# Altium schematic symbol library Ale.SchLib: 105 symbols
Pins are listed as number, name and electrical type; pins without a type are passive.

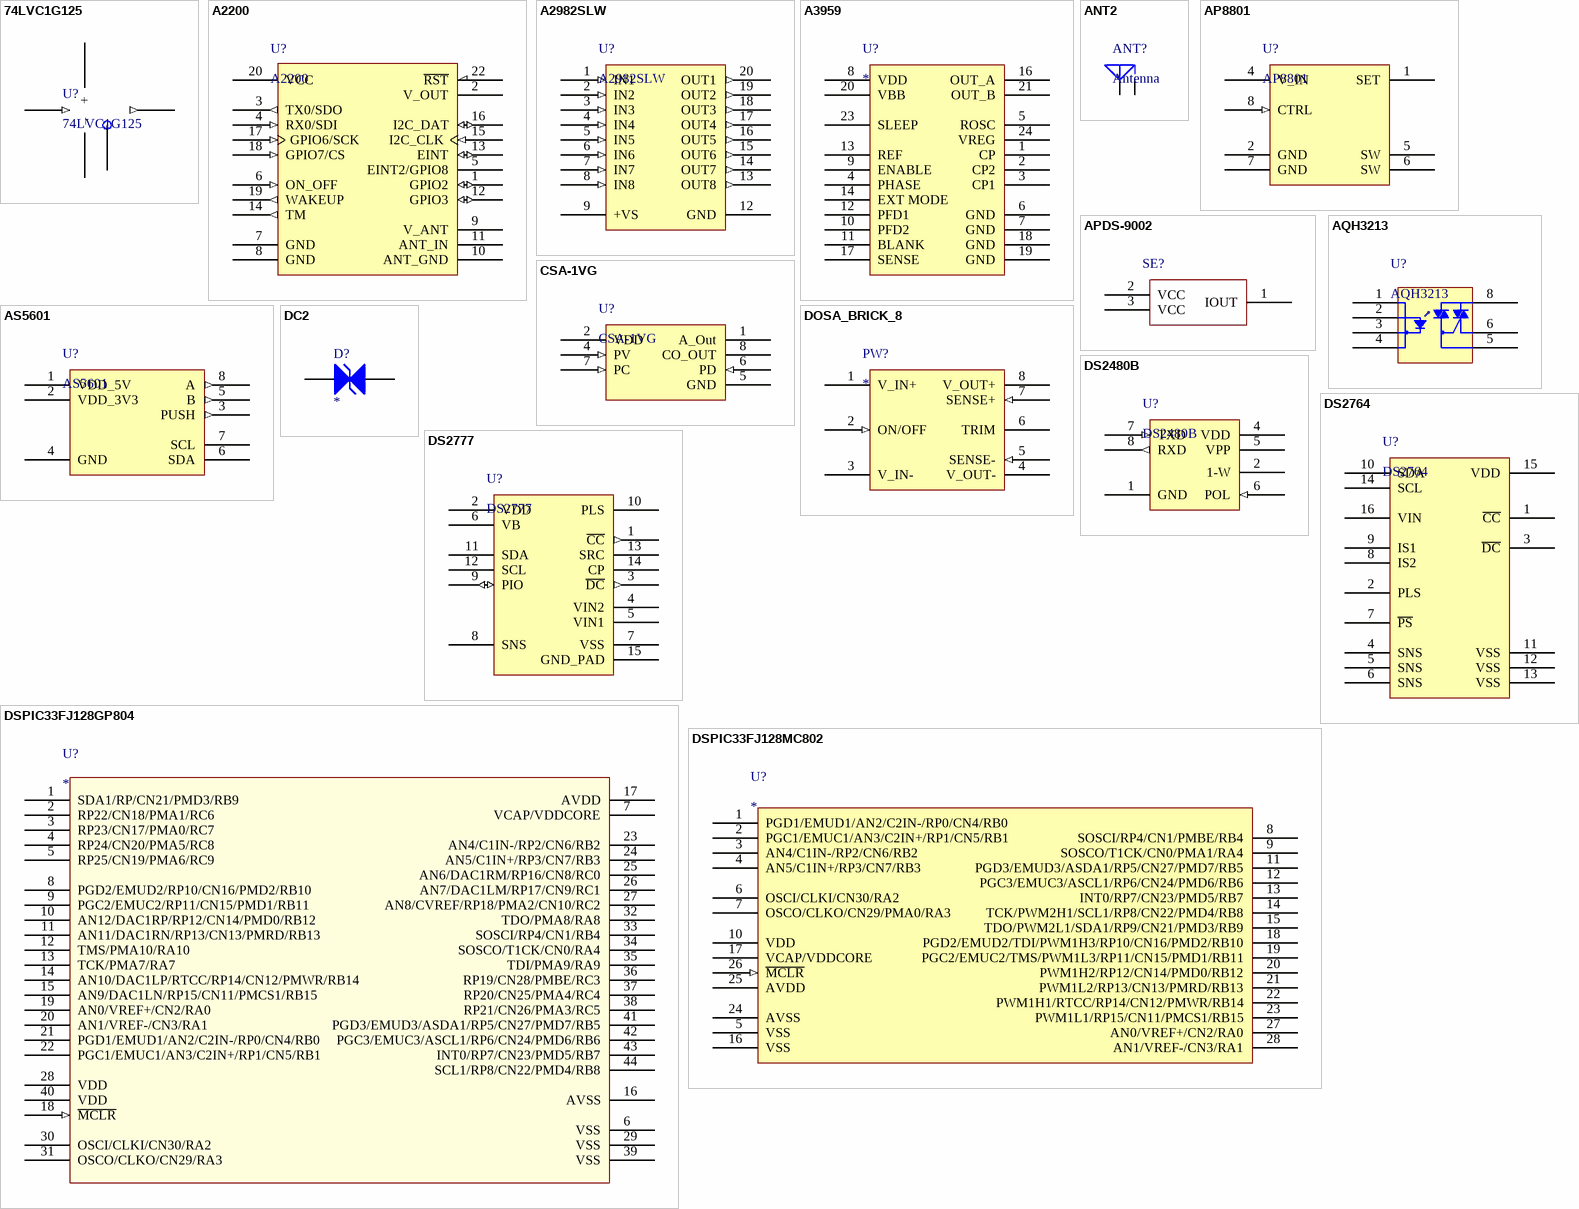
[diagram p0: symbols 74LVC1G125 to DSPIC33FJ128MC802]

## 74LVC1G125
designator U?
Bus buffer/line driver; 3-state; Distributeur: Farnell 1631685
footprint SOT353-5N (SOT353, 5-Leads, Body 2x1.3mm, Pitch 0.65mm, Lead Span 2.1mm, IPC Medium Density)
pins: 1 ~{OE}, 2 A (in), 3 – (power), 4 Y (out), 5 +

## A2200
designator U?
GPS Receiver Module; Supplier 1: Farnell; Supplier 2: Mouser; Supplier Part Number 1: 2281694; Supplier Part Number 2: 927-A2200-A
footprint GPS_A2200 (Maestro Wireless A2200-A GPS module)
pins: 1 GPIO2 (io), 2 V_OUT, 3 TX0/SDO (out), 4 RX0/SDI (in), 5 EINT2/GPIO8, 6 ON_OFF (in), 7 GND (power), 8 GND (power), 9 V_ANT, 10 ANT_GND, 11 ANT_IN, 12 GPIO3 (io), 13 EINT (io), 14 TM (out), 15 I2C_CLK (in), 16 I2C_DAT (io), 17 GPIO6/SCK (in), 18 GPIO7/CS (in), 19 WAKEUP (out), 20 VCC (power), 21 NC hidden, 22 ~{RST}

## A2982SLW
designator U?
8-Channel Source Driver
footprint SOIC127P1030-20N (SOIC, 20-Leads, Body 12.8x7.5mm, Pitch 1.27mm, IPC Medium Density)
pins: 1 IN1 (in), 2 IN2 (in), 3 IN3 (in), 4 IN4 (in), 5 IN5 (in), 6 IN6 (in), 7 IN7 (in), 8 IN8 (in), 9 +VS (power), 12 GND (power), 13 OUT8 (out), 14 OUT7 (out), 15 OUT6 (out), 16 OUT5 (out), 17 OUT4 (out), 18 OUT3 (out), 19 OUT2 (out), 20 OUT1 (out)

## A3959
designator U?
DMOS Full-Bridge PWM Motor Driver
footprint LB24_M (24-Pin Small Outline Integrated Circuit 1.27 mm Pitch, IPC Low Density)
pins: 1 CP, 2 CP2, 3 CP1, 4 PHASE, 5 ROSC, 6 GND (power), 7 GND (power), 8 VDD (power), 9 ENABLE, 10 PFD2, 11 BLANK, 12 PFD1, 13 REF, 14 EXT MODE, 15 NC hidden, 16 OUT_A, 17 SENSE (power), 18 GND (power), 19 GND (power), 20 VBB (power), 21 OUT_B, 22 NC hidden, 23 SLEEP, 24 VREG

## ANT2
designator ANT?, comment Antenna
Antenna with ground connector
footprint CONN_SMA (SMA straight PCB socket)
pins: 1 FEED, 2 GND

## AP8801
designator U?
500mA LED Step-down Converter
footprint SOIC127P600-8AN (SOIC, 8-Leads, Body 4.9x3.9mm, Pitch 1.27mm, IPC Medium Density)
pins: 1 SET, 2 GND (power), 4 V_IN (power), 5 SW, 6 SW, 7 GND (power), 8 CTRL (in)

## APDS-9002
designator SE?  (value not drawn)
Miniature Surface-Mount Ambient Light Photo Sensor
footprint APDS-9002 (Miniature Surface-Mount Ambient Light Photo Sensor)
pins: 1 IOUT, 2 VCC (power), 3 VCC (power), 4 NC hidden

## AQH3213
designator U?
Solid state AC relay
footprint DIP-8 (DIP; 8 Leads; Row Spacing 7.62 mm; Pitch 2.54 mm)
pins: 1 -, 2 +, 3 -, 4 -, 5 GATE, 6 OUT2, 8 OUT1

## AS5601
designator U?
12-bit On-Axis Magnetic Rotary Position Sensor
footprint SOIC127P600-8AN (SOIC, 8-Leads, Body 4.9x3.9mm, Pitch 1.27mm, IPC Medium Density)
pins: 1 VDD_5V (power), 2 VDD_3V3 (power), 3 PUSH (out), 4 GND (power), 5 B (out), 6 SDA (oc), 7 SCL (oc), 8 A (out)

## CSA-1VG
designator U?
Linear 1-Axis Hall IC
footprint SOIC127P600-8AN (SOIC, 8-Leads, Body 4.9x3.9mm, Pitch 1.27mm, IPC Medium Density)
pins: 1 A_Out, 2 VDD (power), 3 NC hidden, 4 PV (in), 5 GND (power), 6 PD (in), 7 PC (in), 8 CO_OUT

## DC2
designator D?
Bidirectional clamping diode
footprint SMA (DO-214AC Diode)
pins: 1 A1, 2 A2

## DOSA_BRICK_8
designator PW?
Isolated Converter 1/8 brick (DOSA standard)
pins: 1 V_IN+ (power), 2 ON/OFF (in), 3 V_IN- (power), 4 V_OUT- (power), 5 SENSE- (in), 6 TRIM, 7 SENSE+ (in), 8 V_OUT+

## DS2480B
designator U?
Serial 1-Wire Line Driver with Load Sensor
footprint SOIC127P600-8AN (SOIC, 8-Leads, Body 4.9x3.9mm, Pitch 1.27mm, IPC Medium Density)
pins: 1 GND (power), 2 1-W, 3 hidden, 4 VDD (power), 5 VPP (power), 6 POL (in), 7 TXD (in), 8 RXD (out)

## DS2764
designator U?
High-Precision Li+ Battery Monitor with 2-Wire Interface
footprint TSSOP16 (Shrink Small Outline; 16 Leads; Body Width 4.4 mm; Pitch 0.65 mm)
pins: 1 ~{CC}, 2 PLS, 3 ~{DC}, 4 SNS, 5 SNS, 6 SNS, 7 ~{PS}, 8 IS2, 9 IS1, 10 SDA, 11 VSS, 12 VSS, 13 VSS, 14 SCL, 15 VDD (power), 16 VIN

## DS2777
designator U?
2-Cell, Stand-Alone, Li+ Fuel-Gauge IC with Protector and Optional SHA-1 Authentication
footprint DFN40P500X300X80-14N (DFN, 14-Leads, Body 3.1x5.1mm (max), Pitch 0.40mm, IPC Medium Density)
pins: 1 ~{CC} (out), 2 VDD (power), 3 ~{DC} (out), 4 VIN2, 5 VIN1, 6 VB, 7 VSS (power), 8 SNS, 9 PIO (io), 10 PLS, 11 SDA, 12 SCL, 13 SRC, 14 CP, 15 GND_PAD (power)

## DSPIC33FJ128GP804
designator U?
High-Performance, 16-bit Digital Signal Controller
pins: 1 SDA1/RP/CN21/PMD3/RB9, 2 RP22/CN18/PMA1/RC6, 3 RP23/CN17/PMA0/RC7, 4 RP24/CN20/PMA5/RC8, 5 RP25/CN19/PMA6/RC9, 6 VSS (power), 7 VCAP/VDDCORE, 8 PGD2/EMUD2/RP10/CN16/PMD2/RB10, 9 PGC2/EMUC2/RP11/CN15/PMD1/RB11, 10 AN12/DAC1RP/RP12/CN14/PMD0/RB12, 11 AN11/DAC1RN/RP13/CN13/PMRD/RB13, 12 TMS/PMA10/RA10, 13 TCK/PMA7/RA7, 14 AN10/DAC1LP/RTCC/RP14/CN12/PMWR/RB14, 15 AN9/DAC1LN/RP15/CN11/PMCS1/RB15, 16 AVSS (power), 17 AVDD (power), 18 ~{MCLR} (in), 19 AN0/VREF+/CN2/RA0, 20 AN1/VREF-/CN3/RA1, 21 PGD1/EMUD1/AN2/C2IN-/RP0/CN4/RB0, 22 PGC1/EMUC1/AN3/C2IN+/RP1/CN5/RB1, 23 AN4/C1IN-/RP2/CN6/RB2, 24 AN5/C1IN+/RP3/CN7/RB3, 25 AN6/DAC1RM/RP16/CN8/RC0, 26 AN7/DAC1LM/RP17/CN9/RC1, 27 AN8/CVREF/RP18/PMA2/CN10/RC2, 28 VDD (power), 29 VSS (power), 30 OSCI/CLKI/CN30/RA2, 31 OSCO/CLKO/CN29/RA3, 32 TDO/PMA8/RA8, 33 SOSCI/RP4/CN1/RB4, 34 SOSCO/T1CK/CN0/RA4, 35 TDI/PMA9/RA9, 36 RP19/CN28/PMBE/RC3, 37 RP20/CN25/PMA4/RC4, 38 RP21/CN26/PMA3/RC5, 39 VSS (power), 40 VDD (power), 41 PGD3/EMUD3/ASDA1/RP5/CN27/PMD7/RB5, 42 PGC3/EMUC3/ASCL1/RP6/CN24/PMD6/RB6, 43 INT0/RP7/CN23/PMD5/RB7, 44 SCL1/RP8/CN22/PMD4/RB8

## DSPIC33FJ128MC802
designator U?
High Performance, 16-bit Digital Signal Controller
footprint QFN-P28-NOPAD (Quad Flat No Lead, Plastic, Punch; 28 Terminals; Body 6 x 6 mm; Pitch 0.65 mm; no central pad)
pins: 1 PGD1/EMUD1/AN2/C2IN-/RP0/CN4/RB0, 2 PGC1/EMUC1/AN3/C2IN+/RP1/CN5/RB1, 3 AN4/C1IN-/RP2/CN6/RB2, 4 AN5/C1IN+/RP3/CN7/RB3, 5 VSS (power), 6 OSCI/CLKI/CN30/RA2, 7 OSCO/CLKO/CN29/PMA0/RA3, 8 SOSCI/RP4/CN1/PMBE/RB4, 9 SOSCO/T1CK/CN0/PMA1/RA4, 10 VDD (power), 11 PGD3/EMUD3/ASDA1/RP5/CN27/PMD7/RB5, 12 PGC3/EMUC3/ASCL1/RP6/CN24/PMD6/RB6, 13 INT0/RP7/CN23/PMD5/RB7, 14 TCK/PWM2H1/SCL1/RP8/CN22/PMD4/RB8, 15 TDO/PWM2L1/SDA1/RP9/CN21/PMD3/RB9, 16 VSS (power), 17 VCAP/VDDCORE (power), 18 PGD2/EMUD2/TDI/PWM1H3/RP10/CN16/PMD2/RB10, 19 PGC2/EMUC2/TMS/PWM1L3/RP11/CN15/PMD1/RB11, 20 PWM1H2/RP12/CN14/PMD0/RB12, 21 PWM1L2/RP13/CN13/PMRD/RB13, 22 PWM1H1/RTCC/RP14/CN12/PMWR/RB14, 23 PWM1L1/RP15/CN11/PMCS1/RB15, 24 AVSS (power), 25 AVDD (power), 26 ~{MCLR} (in), 27 AN0/VREF+/CN2/RA0, 28 AN1/VREF-/CN3/RA1

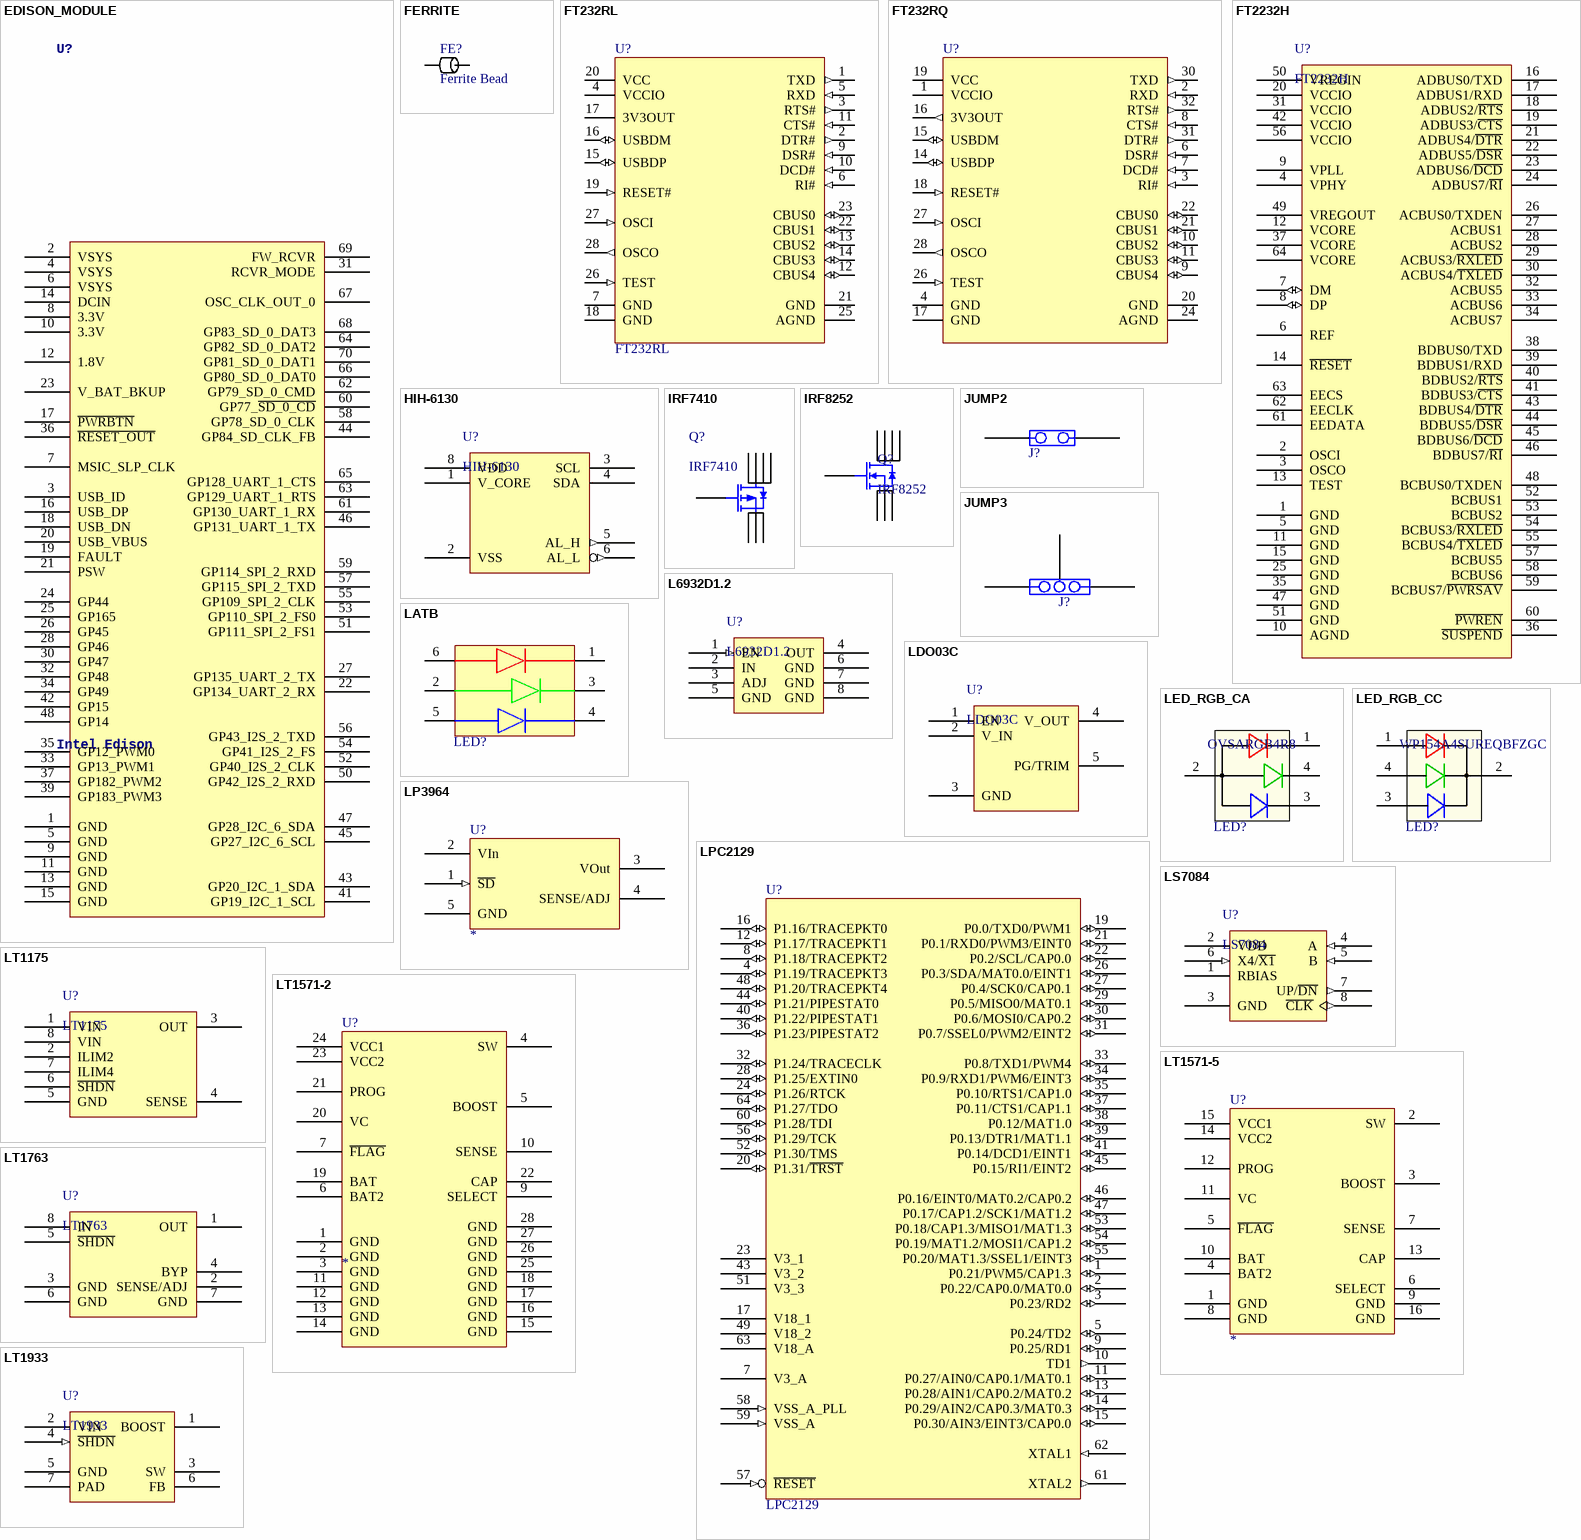
[diagram p1: symbols EDISON_MODULE to LT1933]

## EDISON_MODULE
designator U?, comment Intel Edison
Intel Edison compute module
footprint EDISON_CONNECTOR (Intel Edison compute module connector and holes)
pins: 1 GND, 2 VSYS, 3 USB_ID, 4 VSYS, 5 GND, 6 VSYS, 7 MSIC_SLP_CLK, 8 3.3V, 9 GND, 10 3.3V, 11 GND, 12 1.8V, 13 GND, 14 DCIN, 15 GND, 16 USB_DP, 17 ~{PWRBTN}, 18 USB_DN, 19 FAULT, 20 USB_VBUS, 21 PSW, 22 GP134_UART_2_RX, 23 V_BAT_BKUP, 24 GP44, 25 GP165, 26 GP45, 27 GP135_UART_2_TX, 28 GP46, 30 GP47, 31 RCVR_MODE, 32 GP48, 33 GP13_PWM1, 34 GP49, 35 GP12_PWM0, 36 ~{RESET_OUT}, 37 GP182_PWM2, 39 GP183_PWM3, 41 GP19_I2C_1_SCL, 42 GP15, 43 GP20_I2C_1_SDA, 44 GP84_SD_CLK_FB, 45 GP27_I2C_6_SCL, 46 GP131_UART_1_TX, 47 GP28_I2C_6_SDA, 48 GP14, 50 GP42_I2S_2_RXD, 51 GP111_SPI_2_FS1, 52 GP40_I2S_2_CLK, 53 GP110_SPI_2_FS0, 54 GP41_I2S_2_FS, 55 GP109_SPI_2_CLK, 56 GP43_I2S_2_TXD, 57 GP115_SPI_2_TXD, 58 GP78_SD_0_CLK, 59 GP114_SPI_2_RXD, 60 GP77_~{SD_0_CD}, 61 GP130_UART_1_RX, 62 GP79_SD_0_CMD, 63 GP129_UART_1_RTS, 64 GP82_SD_0_DAT2, 65 GP128_UART_1_CTS, 66 GP80_SD_0_DAT0, 67 OSC_CLK_OUT_0, 68 GP83_SD_0_DAT3, 69 FW_RCVR, 70 GP81_SD_0_DAT1

## FERRITE
designator FE?, comment Ferrite Bead
footprint INDC1608N (Chip Inductor, Body 1.6x0.8mm, IPC Medium Density)
footprint WIRE (Connection wire)
pins: 1 A, 2 A

## FT232RL
designator U?
USB UART Asynchronous Serial Data Transfer Chip, SSOP28, Pb-Free; Published: 6-Oct-2005; LatestRevisionDate: 13-Apr-2006; LatestRevisionNote: IPC-7351 Footprint Added.; DatasheetVersion: ver 1.7, Feb-2005; PackageVersion: Feb-2005; PackageReference: QFN32; Publisher: Altium Limited; PackageDescription: 32-Pin Quad Flat No-Lead 0.5 mm Pitch; ComponentLink1Description: Manufacturer Link; ComponentLink1URL: http://www.ftdichip.com/Products/FT232BM.htm; ComponentLink2Description: Datasheet; ComponentLink2URL: http://www.ftdichip.com/Documents/DataSheets/ds232bq17.pdf
footprint SSOP28-5.30 (Shrink Small Outline; 28 Leads; Body Width 5.3 mm; Pitch 0.65 mm)
pins: 1 TXD (out), 2 DTR# (out), 3 RTS# (out), 4 VCCIO (power), 5 RXD (in), 6 RI# (in), 7 GND (power), 9 DSR# (in), 10 DCD# (in), 11 CTS# (in), 12 CBUS4 (io), 13 CBUS2 (io), 14 CBUS3 (io), 15 USBDP (io), 16 USBDM (io), 17 3V3OUT (power), 18 GND (power), 19 RESET# (in), 20 VCC (power), 21 GND (power), 22 CBUS1 (io), 23 CBUS0 (io), 25 AGND (power), 26 TEST (in), 27 OSCI (in), 28 OSCO (out)

## FT232RQ
designator U?
USB UART Asynchronous Serial Data Transfer Chip, QFN32, Pb-Free; Published: 6-Oct-2005; LatestRevisionDate: 13-Apr-2006; LatestRevisionNote: IPC-7351 Footprint Added.; DatasheetVersion: ver 1.7, Feb-2005; PackageVersion: Feb-2005; PackageReference: QFN32; Publisher: Altium Limited; PackageDescription: 32-Pin Quad Flat No-Lead 0.5 mm Pitch; ComponentLink1Description: Manufacturer Link; ComponentLink1URL: http://www.ftdichip.com/Products/FT232BM.htm; ComponentLink2Description: Datasheet; ComponentLink2URL: http://www.ftdichip.com/Documents/DataSheets/ds232bq17.pdf
footprint QFN5X5-32-NOPAD (Quad Flat No Lead; 32 Terminals; Body 5 x 5 mm; Pitch 0.5 mm; no central pad)
pins: 1 VCCIO (power), 2 RXD (in), 3 RI# (in), 4 GND (power), 6 DSR# (in), 7 DCD# (in), 8 CTS# (in), 9 CBUS4 (io), 10 CBUS2 (io), 11 CBUS3 (io), 14 USBDP (io), 15 USBDM (io), 16 3V3OUT (out), 17 GND (power), 18 RESET# (in), 19 VCC (power), 20 GND (power), 21 CBUS1 (io), 22 CBUS0 (io), 24 AGND (power), 26 TEST (in), 27 OSCI (in), 28 OSCO (out), 30 TXD (out), 31 DTR# (out), 32 RTS# (out)

## FT2232H
designator U?
Dual high-speed USB to multipurpose UART/FIFO IC
footprint QFN50P900X900-64BVN (QFN, 64-Leads, Body 9x9mm, Pitch 0.5mm, IPC Medium Density)
footprint TSQFP50P1200X1200-64N (Thin QFP, 64-Leads, Body 10x10mm, Pitch 0.5mm, IPC Medium Density)
pins: 1 GND (power), 2 OSCI, 3 OSCO, 4 VPHY, 5 GND (power), 6 REF, 7 DM (io), 8 DP (io), 9 VPLL, 10 AGND, 11 GND (power), 12 VCORE (power), 13 TEST, 14 ~{RESET}, 15 GND (power), 16 ADBUS0/TXD, 17 ADBUS1/RXD, 18 ADBUS2/~{RTS}, 19 ADBUS3/~{CTS}, 20 VCCIO (power), 21 ADBUS4/~{DTR}, 22 ADBUS5/~{DSR}, 23 ADBUS6/~{DCD}, 24 ADBUS7/~{RI}, 25 GND (power), 26 ACBUS0/TXDEN, 27 ACBUS1, 28 ACBUS2, 29 ACBUS3/~{RXLED}, 30 ACBUS4/~{TXLED}, 31 VCCIO (power), 32 ACBUS5, 33 ACBUS6, 34 ACBUS7, 35 GND (power), 36 ~{SUSPEND}, 37 VCORE (power), 38 BDBUS0/TXD, 39 BDBUS1/RXD, 40 BDBUS2/~{RTS}, 41 BDBUS3/~{CTS}, 42 VCCIO (power), 43 BDBUS4/~{DTR}, 44 BDBUS5/~{DSR}, 45 BDBUS6/~{DCD}, 46 BDBUS7/~{RI}, 47 GND (power), 48 BCBUS0/TXDEN, 49 VREGOUT, 50 VREGIN, 51 GND (power), 52 BCBUS1, 53 BCBUS2, 54 BCBUS3/~{RXLED}, 55 BCBUS4/~{TXLED}, 56 VCCIO (power), 57 BCBUS5, 58 BCBUS6, 59 BCBUS7/~{PWRSAV}, 60 ~{PWREN}, 61 EEDATA, 62 EECLK, 63 EECS, 64 VCORE (power)

## HIH-6130
designator U?
HumidIcon Digital Humidity/Temperature Sensor
footprint PVQFN14_RGY (Footprint not found)
pins: 1 V_CORE, 2 VSS (power), 3 SCL (oc), 4 SDA (oc), 5 AL_H (out), 6 AL_L (out), 8 VDD (power)

## IRF7410
designator Q?
P-Channel MOSFET
footprint SOIC127P600-8AN (SOIC, 8-Leads, Body 4.9x3.9mm, Pitch 1.27mm, IPC Medium Density)
pins: 1 S, 2 S, 3 S, 4 G, 5 D, 6 D, 7 D, 8 D

## IRF8252
designator Q?
N-Channel MOSFET
footprint SOIC127P600-8AN (SOIC, 8-Leads, Body 4.9x3.9mm, Pitch 1.27mm, IPC Medium Density)
pins: 1 S, 2 S, 3 S, 4 G, 5 D, 6 D, 7 D, 8 D

## JUMP2
designator J?  (value not drawn)
Jumper, 2 leads
footprint JUMP2 (Jumper, 2.54 mm pitch)
pins: 1, 2
1 alternate drawing of the same symbol

## JUMP3
designator J?  (value not drawn)
Jumper, 3 leads
footprint HDR1X3 (Connector; Header; 3 Position)
pins: 1, 2, 3
1 alternate drawing of the same symbol

## L6932D1.2
designator U?
High Performance 2 A ULDO Linear Regulator
footprint SOIC127P600-8AN (SOIC, 8-Leads, Body 4.9x3.9mm, Pitch 1.27mm, IPC Medium Density)
pins: 1 EN (in), 2 IN (power), 3 ADJ, 4 OUT, 5 GND (power), 6 GND (power), 7 GND (power), 8 GND (power)

## LATB
designator LED?, comment LATB G66B  (value not drawn)
Manufacturer: Osram; Published: 19 Décembre 2005; Revision: 1; Publisher: Pierre-André
footprint LCC6 (RGB LED)
pins: 1 RK, 2 GA, 3 GK, 4 BK, 5 BA, 6 RA

## LDO03C
designator U?
LDO03C series DC/DC converter
footprint EMERSON_LDO03C_H (Emerson LDO03C DC/DC converter, horizontal mount)
pins: 1 EN, 2 V_IN (power), 3 GND (power), 4 V_OUT (power), 5 PG/TRIM

## LED_RGB_CA
designator LED?, comment OVSARGB4R8
Common anode RGB LED; Revision: 1
footprint PLCC4 (PLCC4 LED)
pins: 1 RK, 2 A, 3 BK, 4 GK

## LED_RGB_CC
designator LED?, comment WP154A4SUREQBFZGC
Common cathode RGB LED; Revision: 1
pins: 1 RA, 2 K, 3 BA, 4 GA

## LP3964
designator U?
800mA Fast Ultra Low Dropout Linear Regulator
footprint SOT223-5N (SOT223, 5-Leads, Body 6.5x3.5mm, Pitch 1.5mm, Lead Span 7mm, IPC Medium Density)
pins: 1 ~{SD} (in), 2 VIn (power), 3 VOut (power), 4 SENSE/ADJ, 5 GND

## LPC2129
designator U?
Philips LPC2129 ARM processor; OriginalAuthor: PAM
footprint TSQFP50P1200X1200-64N (Thin QFP, 64-Leads, Body 10x10mm, Pitch 0.5mm, IPC Medium Density)
pins: 1 P0.21/PWM5/CAP1.3 (io), 2 P0.22/CAP0.0/MAT0.0 (io), 3 P0.23/RD2 (io), 4 P1.19/TRACEPKT3 (io), 5 P0.24/TD2 (io), 6 VSS_1 (power) hidden to GND, 7 V3_A (power), 8 P1.18/TRACEPKT2 (io), 9 P0.25/RD1 (io), 10 TD1 (out), 11 P0.27/AIN0/CAP0.1/MAT0.1 (io), 12 P1.17/TRACEPKT1 (io), 13 P0.28/AIN1/CAP0.2/MAT0.2 (io), 14 P0.29/AIN2/CAP0.3/MAT0.3 (io), 15 P0.30/AIN3/EINT3/CAP0.0 (io), 16 P1.16/TRACEPKT0 (io), 17 V18_1 (power), 18 VSS_2 (power) hidden to GND, 19 P0.0/TXD0/PWM1 (io), 20 P1.31/~{TRST} (io), 21 P0.1/RXD0/PWM3/EINT0 (io), 22 P0.2/SCL/CAP0.0 (io), 23 V3_1 (power), 24 P1.26/RTCK (io), 25 VSS_3 (power) hidden to GND, 26 P0.3/SDA/MAT0.0/EINT1 (io), 27 P0.4/SCK0/CAP0.1 (io), 28 P1.25/EXTIN0 (io), 29 P0.5/MISO0/MAT0.1 (io), 30 P0.6/MOSI0/CAP0.2 (io), 31 P0.7/SSEL0/PWM2/EINT2 (io), 32 P1.24/TRACECLK (io), 33 P0.8/TXD1/PWM4 (io), 34 P0.9/RXD1/PWM6/EINT3 (io), 35 P0.10/RTS1/CAP1.0 (io), 36 P1.23/PIPESTAT2 (io), 37 P0.11/CTS1/CAP1.1 (io), 38 P0.12/MAT1.0 (io), 39 P0.13/DTR1/MAT1.1 (io), 40 P1.22/PIPESTAT1 (io), 41 P0.14/DCD1/EINT1 (io), 42 VSS_4 (power) hidden to GND, 43 V3_2 (power), 44 P1.21/PIPESTAT0 (io), 45 P0.15/RI1/EINT2 (io), 46 P0.16/EINT0/MAT0.2/CAP0.2 (io), 47 P0.17/CAP1.2/SCK1/MAT1.2 (io), 48 P1.20/TRACEPKT4 (io), 49 V18_2 (power), 50 VSS_5 (power) hidden to GND, 51 V3_3 (power), 52 P1.30/TMS (io), 53 P0.18/CAP1.3/MISO1/MAT1.3 (io), 54 P0.19/MAT1.2/MOSI1/CAP1.2 (io), 55 P0.20/MAT1.3/SSEL1/EINT3 (io), 56 P1.29/TCK (io), 57 ~{RESET} (in), 58 VSS_A_PLL (in), 59 VSS_A (in), 60 P1.28/TDI (io), 61 XTAL2 (out), 62 XTAL1 (in), 63 V18_A (power), 64 P1.27/TDO (io)

## LS7084
designator U?
Quadrature clock converter
footprint SOIC127P600-8AN (SOIC, 8-Leads, Body 4.9x3.9mm, Pitch 1.27mm, IPC Medium Density)
pins: 1 RBIAS, 2 VDD (power), 3 GND, 4 A (in), 5 B (in), 6 X4/~{X1} (in), 7 UP/~{DN} (out), 8 ~{CLK} (out)

## LT1175
designator U?
500mA Negative Low Dropout Micropower Regulator
footprint SOIC127P600-8AN (SOIC, 8-Leads, Body 4.9x3.9mm, Pitch 1.27mm, IPC Medium Density)
pins: 1 VIN (power), 2 ILIM2, 3 OUT, 4 SENSE, 5 GND (power), 6 ~{SHDN}, 7 ILIM4, 8 VIN (power)

## LT1571-2
designator U?
Constant-Current/Constant-Voltage Battery Charger with Preset Voltage and Termination Flag
footprint TSOP65P640-28AN (TSOP, 28-Leads, Body 9.7x4.4mm, Pitch 0.65mm, IPC Medium Density)
pins: 1 GND (power), 2 GND (power), 3 GND (power), 4 SW, 5 BOOST, 6 BAT2, 7 ~{FLAG} (oc), 9 SELECT, 10 SENSE, 11 GND (power), 12 GND (power), 13 GND (power), 14 GND (power), 15 GND (power), 16 GND (power), 17 GND (power), 18 GND (power), 19 BAT (power), 20 VC, 21 PROG, 22 CAP, 23 VCC2 (power), 24 VCC1 (power), 25 GND (power), 26 GND (power), 27 GND (power), 28 GND (power)

## LT1571-5
designator U?
Constant-Current/Constant-Voltage Battery Charger with Preset Voltage and Termination Flag
footprint TSOP65P640-16AN (TSOP, 16-Leads, Body 5x4.4mm, Pitch 0.65mm, IPC Medium Density)
pins: 1 GND (power), 2 SW, 3 BOOST, 4 BAT2, 5 ~{FLAG} (oc), 6 SELECT, 7 SENSE, 8 GND (power), 9 GND (power), 10 BAT (power), 11 VC, 12 PROG, 13 CAP, 14 VCC2 (power), 15 VCC1 (power), 16 GND (power)

## LT1763
designator U?
500mA, Low Noise, LDO  Micropower Regulator
footprint SOIC127P600-8AN (SOIC, 8-Leads, Body 4.9x3.9mm, Pitch 1.27mm, IPC Medium Density)
pins: 1 OUT, 2 SENSE/ADJ, 3 GND (power), 4 BYP, 5 ~{SHDN}, 6 GND (power), 7 GND (power), 8 IN (power)

## LT1933
designator U?
600mA, 500kHz Step-Down  Switching Regulator
footprint DFN6-DCB (6-Lead Plastic DFN (2mm × 3mm))
pins: 1 BOOST, 2 VIN (power), 3 SW, 4 ~{SHDN} (in), 5 GND (power), 6 FB, 7 PAD

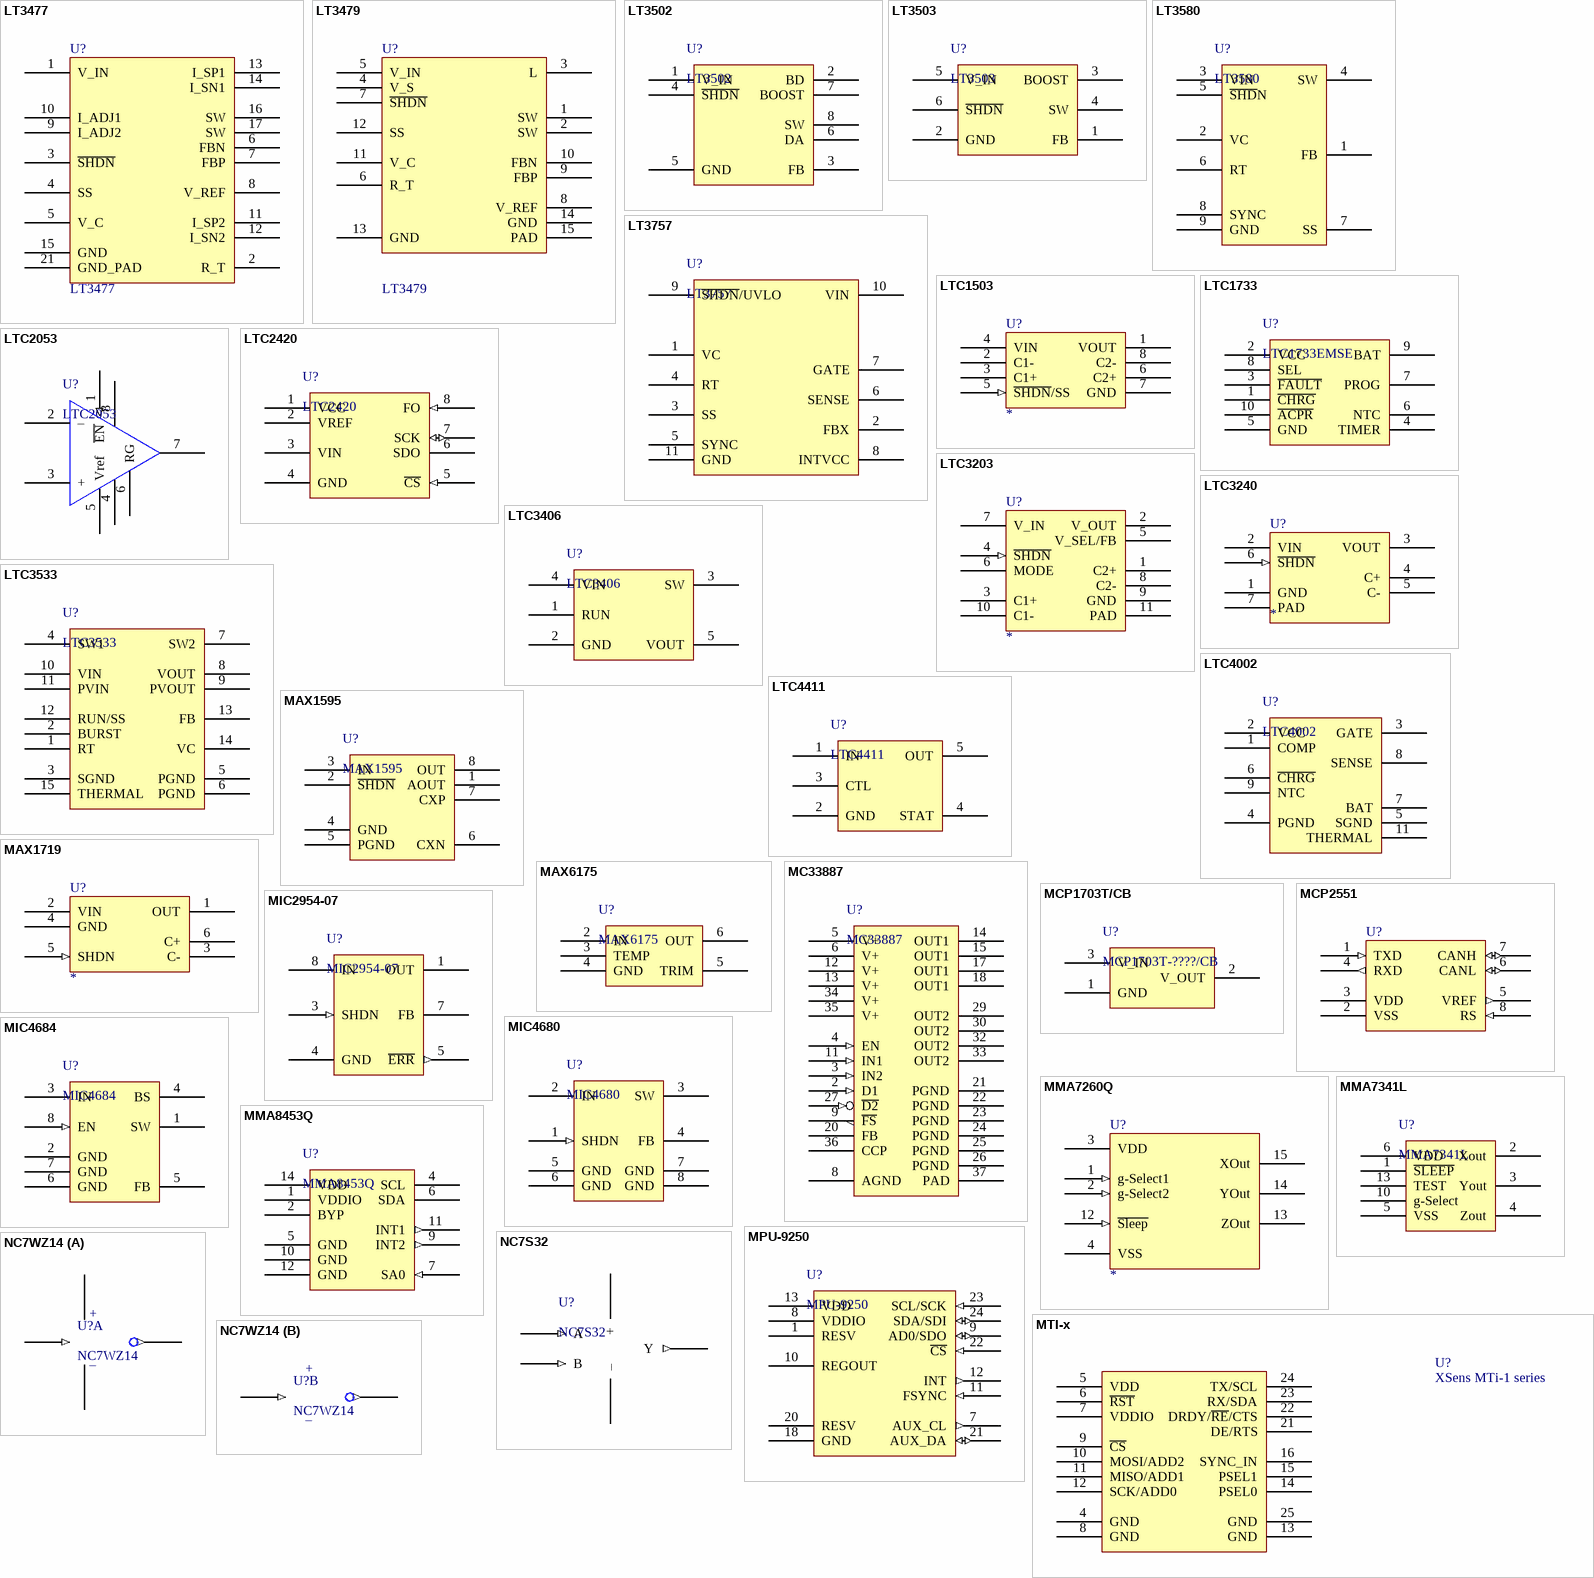
[diagram p2: symbols LT3477 to NC7WZ14]

## LT3477
designator U?
3A, DC/DC Converter with Dual Rail-to-Rail Current Sense
footprint TSSOP-20_PAD
pins: 1 V_IN, 2 R_T, 3 ~{SHDN}, 4 SS, 5 V_C, 6 FBN, 7 FBP, 8 V_REF, 9 I_ADJ2, 10 I_ADJ1, 11 I_SP2, 12 I_SN2, 13 I_SP1, 14 I_SN1, 15 GND, 16 SW, 17 SW, 21 GND_PAD

## LT3479
designator U?
3A, Full Featured DC/DC Converter with Soft-Start and Inrush Current Protection
footprint DFN14-DE (14-Lead Plastic DFN (4 x 3 mm))
footprint DFN14-DE_HOLE (14-Lead Plastic DFN (4 x 3 mm))
pins: 1 SW, 2 SW, 3 L, 4 V_S, 5 V_IN, 6 R_T, 7 ~{SHDN}, 8 V_REF, 9 FBP, 10 FBN, 11 V_C, 12 SS, 13 GND, 14 GND, 15 PAD

## LT3502
designator U?
500 mA, 1.1MHz Step-Down Switching Regulator
footprint DFN8-DD (10-Lead Plastic DFN (3 x 3 mm))
pins: 1 V_IN (power), 2 BD, 3 FB, 4 ~{SHDN}, 5 GND (power), 6 DA, 7 BOOST, 8 SW

## LT3503
designator U?
1A, 2.2MHz Step-Down Switching Regulator
footprint DFN6-DCB (6-Lead Plastic DFN (2mm × 3mm))
pins: 1 FB, 2 GND (power), 3 BOOST, 4 SW, 5 V_IN (power), 6 ~{SHDN}

## LT3580
designator U?
Boost/Inverting DC/DC Converter with 2A Switch, Soft-Start, and Synchronization
footprint DFN8-DD (Footprint not found)
pins: 1 FB, 2 VC, 3 VIN (power), 4 SW, 5 ~{SHD}N, 6 RT, 7 SS, 8 SYNC, 9 GND (power)

## LT3757
designator U?
Boost, Flyback, SEPIC and Inverting Controller
footprint DFN10-DD (10-Lead Plastic DFN (3 x 3 mm))
pins: 1 VC, 2 FBX, 3 SS, 4 RT, 5 SYNC, 6 SENSE, 7 GATE, 8 INTVCC, 9 ~{SHDN}/UVLO, 10 VIN (power), 11 GND (power)

## LTC1503
designator U?
High Efficiency Inductorless Step-Down DC/DC Converter
footprint TSOP65P490-8AN (TSOP, 8-Leads, Body 3x3mm, Pitch 0.65mm, IPC Medium Density)
pins: 1 VOUT (power), 2 C1- (power), 3 C1+ (power), 4 VIN (power), 5 ~{SHDN}/SS (in), 6 C2+, 7 GND (power), 8 C2-

## LTC1733
designator U?, comment LTC1733EMSE
Monolithic Linear Lithium-Ion Battery Charger with Thermal Regulation
footprint TSSOP50P490_HS-10N (TSSOP, 10-Leads, Body 3x3mm, Pitch 0.5mm, Exposed Pad, IPC Medium Density)
pins: 1 ~{CHRG}, 2 VCC (power), 3 ~{FAULT}, 4 TIMER, 5 GND (power), 6 NTC, 7 PROG, 8 SEL, 9 BAT, 10 ~{ACPR}

## LTC2053
designator U?
Precision, Rail-to-Rail, Zero-Drift, Resistor-Programmable Instrumentation Amplifier
footprint TSOP65P490-8AN (TSOP, 8-Leads, Body 3x3mm, Pitch 0.65mm, IPC Medium Density)
pins: 1 ~{EN} (in), 2 –, 3 +, 4 V– (power), 5 Vref, 6 RG, 7 OUT, 8 V+ (power)

## LTC2420
designator U?
20-Bit µPower No Latency delta-sigma ADC
footprint SOIC127P600-8AN (SOIC, 8-Leads, Body 4.9x3.9mm, Pitch 1.27mm, IPC Medium Density)
pins: 1 VCC (power), 2 VREF, 3 VIN, 4 GND (power), 5 ~{CS} (in), 6 SDO, 7 SCK (io), 8 FO (in)

## LTC3203
designator U?
500 mA low noise dual mode step-up charge pump
footprint DFN10-DD (10-Lead Plastic DFN (3 x 3 mm))
pins: 1 C2+, 2 V_OUT (power), 3 C1+, 4 ~{SHDN} (in), 5 V_SEL/FB, 6 MODE, 7 V_IN (power), 8 C2-, 9 GND (power), 10 C1-, 11 PAD (power)

## LTC3240
designator U?
Step-Up/Step-Down Charge Pump DC/DC Converter
footprint DFN6-DC (6-Lead Plastic DFN (2mm × 2mm))
pins: 1 GND (power), 2 VIN (power), 3 VOUT (power), 4 C+, 5 C-, 6 ~{SHDN} (in), 7 PAD (power)

## LTC3406
designator U?
1.5MHz, 600mA Synchronous Step-Down Regulator in ThinSOT
footprint SOT23-5AN (SOT23, 5-Leads, Body 2.9x1.6mm, Pitch 0.95mm, Lead Span 2.8mm, IPC Medium Density)
pins: 1 RUN, 2 GND (power), 3 SW, 4 VIN (power), 5 VOUT

## LTC3533
designator U?
2A Wide Input Voltage Synchronous Buck-Boost DC/DC Converter
footprint DFN14-DE (14-Lead Plastic DFN (4 x 3 mm))
footprint DFN14-DE_HOLE (14-Lead Plastic DFN (4 x 3 mm))
pins: 1 RT, 2 BURST, 3 SGND (power), 4 SW1, 5 PGND (power), 6 PGND (power), 7 SW2, 8 VOUT, 9 PVOUT, 10 VIN (power), 11 PVIN (power), 12 RUN/SS, 13 FB, 14 VC, 15 THERMAL (power)

## LTC4002
designator U?
Standalone Li-Ion Switch Mode Battery Charger
footprint DFN10-DD (10-Lead Plastic DFN (3 x 3 mm))
pins: 1 COMP, 2 VCC (power), 3 GATE, 4 PGND (power), 5 SGND, 6 ~{CHRG}, 7 BAT, 8 SENSE, 9 NTC, 11 THERMAL

## LTC4411
designator U?
2.6 A Low Loss Ideal Diode in ThinSOT
footprint SOT23-5AN (SOT23, 5-Leads, Body 2.9x1.6mm, Pitch 0.95mm, Lead Span 2.8mm, IPC Medium Density)
pins: 1 IN (power), 2 GND (power), 3 CTL, 4 STAT, 5 OUT

## MAX1595
designator U?
Regulated 3.3V/5.0V Step-Up/Step-Down  Charge Pump
footprint UMAX8 (Maxim µMAX package, 8 pins)
pins: 1 AOUT, 2 ~{SHDN}, 3 IN (power), 4 GND, 5 PGND (power), 6 CXN, 7 CXP, 8 OUT

## MAX1719
designator U?
Switched-Capacitor Voltage Inverter with Shutdown
footprint SOT26A-6N (SOT23, 6-Leads, Body 2.9x1.7mm, Pitch 0.95mm, Lead Span 2.8mm, IPC Medium Density)
pins: 1 OUT (power), 2 VIN (power), 3 C-, 4 GND (power), 5 SHDN (in), 6 C+

## MAX6175
designator U?
High-Precision Voltage Reference with Temperature Sensor
footprint SOIC127P600-8AN (SOIC, 8-Leads, Body 4.9x3.9mm, Pitch 1.27mm, IPC Medium Density)
pins: 2 IN (power), 3 TEMP, 4 GND (power), 5 TRIM, 6 OUT

## MC33887
designator U?
5.0A H-Bridge with load current feedback
footprint PQFN-9X9-36 (QFN, 36-Leads, Body 9x9mm, Pitch 0.8mm, Thermal Pad 6x6mm)
pins: 2 D1 (in), 3 IN2 (in), 4 EN (in), 5 V+ (power), 6 V+, 8 AGND (power), 9 ~{FS} (oe), 11 IN1 (in), 12 V+, 13 V+, 14 OUT1, 15 OUT1, 17 OUT1, 18 OUT1, 20 FB, 21 PGND (power), 22 PGND (power), 23 PGND (power), 24 PGND (power), 25 PGND (power), 26 PGND (power), 27 ~{D2} (in), 29 OUT2, 30 OUT2, 32 OUT2, 33 OUT2, 34 V+, 35 V+, 36 CCP, 37 PAD

## MCP1703T/CB
designator U?, comment MCP1703T-????/CB
250 mA, 16V, Low Quiescent Current LDO Regulator
footprint SOT23-3N (SOT23, 3-Leads, Body 2.9x1.3mm, Pitch 0.95mm, Lead Span 2.5mm, IPC Medium Density)
pins: 1 GND (power), 2 V_OUT (power), 3 V_IN (power)

## MCP2551
designator U?
High-Speed CAN Transceiver
footprint SOIC127P600-8AN (SOIC, 8-Leads, Body 4.9x3.9mm, Pitch 1.27mm, IPC Medium Density)
pins: 1 TXD (in), 2 VSS (power), 3 VDD (power), 4 RXD (out), 5 VREF (out), 6 CANL (io), 7 CANH (io), 8 RS (in)

## MIC2954-07
designator U?
250mA Low-Dropout Regulator
footprint SOIC127P600-8AN (SOIC, 8-Leads, Body 4.9x3.9mm, Pitch 1.27mm, IPC Medium Density)
pins: 1 OUT, 3 SHDN (in), 4 GND (power), 5 ~{ERR} (out), 7 FB, 8 IN (power)

## MIC4680
designator U?
1A 200 kHz SuperSwitcher Buck Regulator
footprint SOIC127P600-8AN (SOIC, 8-Leads, Body 4.9x3.9mm, Pitch 1.27mm, IPC Medium Density)
pins: 1 SHDN (in), 2 IN (power), 3 SW, 4 FB, 5 GND (power), 6 GND (power), 7 GND (power), 8 GND (power)

## MIC4684
designator U?
2A 200 kHz SuperSwitcher Buck Regulator
footprint SOIC127P600-8AN (SOIC, 8-Leads, Body 4.9x3.9mm, Pitch 1.27mm, IPC Medium Density)
pins: 1 SW, 2 GND (power), 3 IN (power), 4 BS, 5 FB, 6 GND (power), 7 GND (power), 8 EN (in)

## MMA7260Q
designator U?
±1.5g - 6g Three Axis Low-g  Micromachined Accelerometer
footprint QFN6x6-16 (Quad Flat No Lead; 16 Terminals; Body 6 x 6 mm; Pitch 1 mm)
pins: 1 g-Select1 (in), 2 g-Select2 (in), 3 VDD (power), 4 VSS (power), 12 ~{Sleep} (in), 13 ZOut, 14 YOut, 15 XOut

## MMA7341L
designator U?
XYZ axis accelerometer ±3g, ±11g
pins: 1 ~{SLEEP}, 2 Xout, 3 Yout, 4 Zout, 5 VSS (power), 6 VDD, 10 g-Select, 13 TEST

## MMA8453Q
designator U?
3-Axis, 10-bit/8-bit Digital Accelerometer; ACORT_footprint: PQFN_3X3_3X5_16
footprint QFN50P300X300X100-5X3-16N (QFN, 16-Leads, Body 3.0x3.0mm (max), Pitch 0.50mm, 5 pins by 3 pins, IPC Medium Density)
pins: 1 VDDIO (power), 2 BYP, 4 SCL (oc), 5 GND (power), 6 SDA (oc), 7 SA0 (in), 9 INT2 (out), 10 GND (power), 11 INT1 (out), 12 GND (power), 14 VDD (power)

## MPU-9250
designator U?
9-DoF single-chip IMU
footprint QFN40P300X300X100_HS-25N (QFN, 24-Leads, Body 3.00x3.00mm, Pitch 0.40mm, Thermal Pad 1.54x1.70mm, IPC Medium Density)
pins: 1 RESV, 7 AUX_CL (out), 8 VDDIO, 9 AD0/SDO (io), 10 REGOUT, 11 FSYNC (in), 12 INT (out), 13 VDD (power), 18 GND, 20 RESV, 21 AUX_DA (io), 22 ~{CS} (in), 23 SCL/SCK (in), 24 SDA/SDI (io)

## MTI-x
designator U?, comment XSens MTi-1 series
XSens MTi-1 series IMU/AHRS module
footprint SOCKET_PLCC28 (PLCC28 socket (3M 8428))
pins: 4 GND, 5 VDD, 6 ~{RST}, 7 VDDIO, 8 GND, 9 ~{CS}, 10 MOSI/ADD2, 11 MISO/ADD1, 12 SCK/ADD0, 13 GND, 14 PSEL0, 15 PSEL1, 16 SYNC_IN, 21 DE/RTS, 22 DRDY/~{RE}/CTS, 23 RX/SDA, 24 TX/SCL, 25 GND

## NC7S32
designator U?
TinyLogic HS 2-Input OR Gate
footprint SOT353-5N (SOT353, 5-Leads, Body 2x1.3mm, Pitch 0.65mm, Lead Span 2.1mm, IPC Medium Density)
pins: 1 A (in), 2 B (in), 3 – (power), 4 Y (out), 5 + (power)

## NC7WZ14
designator U?
TinyLogic UHS Dual Inverter with Schmitt Trigger Inputs
footprint SOT363-6N (SOT363, 6-Leads, Body 2x1.3mm, Pitch 0.65mm, Lead Span 2.1mm, IPC Medium Density)
part A pins: 1 A1 (in), 2 - (power), 5 +, 6 Y1 (out)
part B pins: 3 A2 (in), 4 Y2 (out)
part A text: –
part B text: –

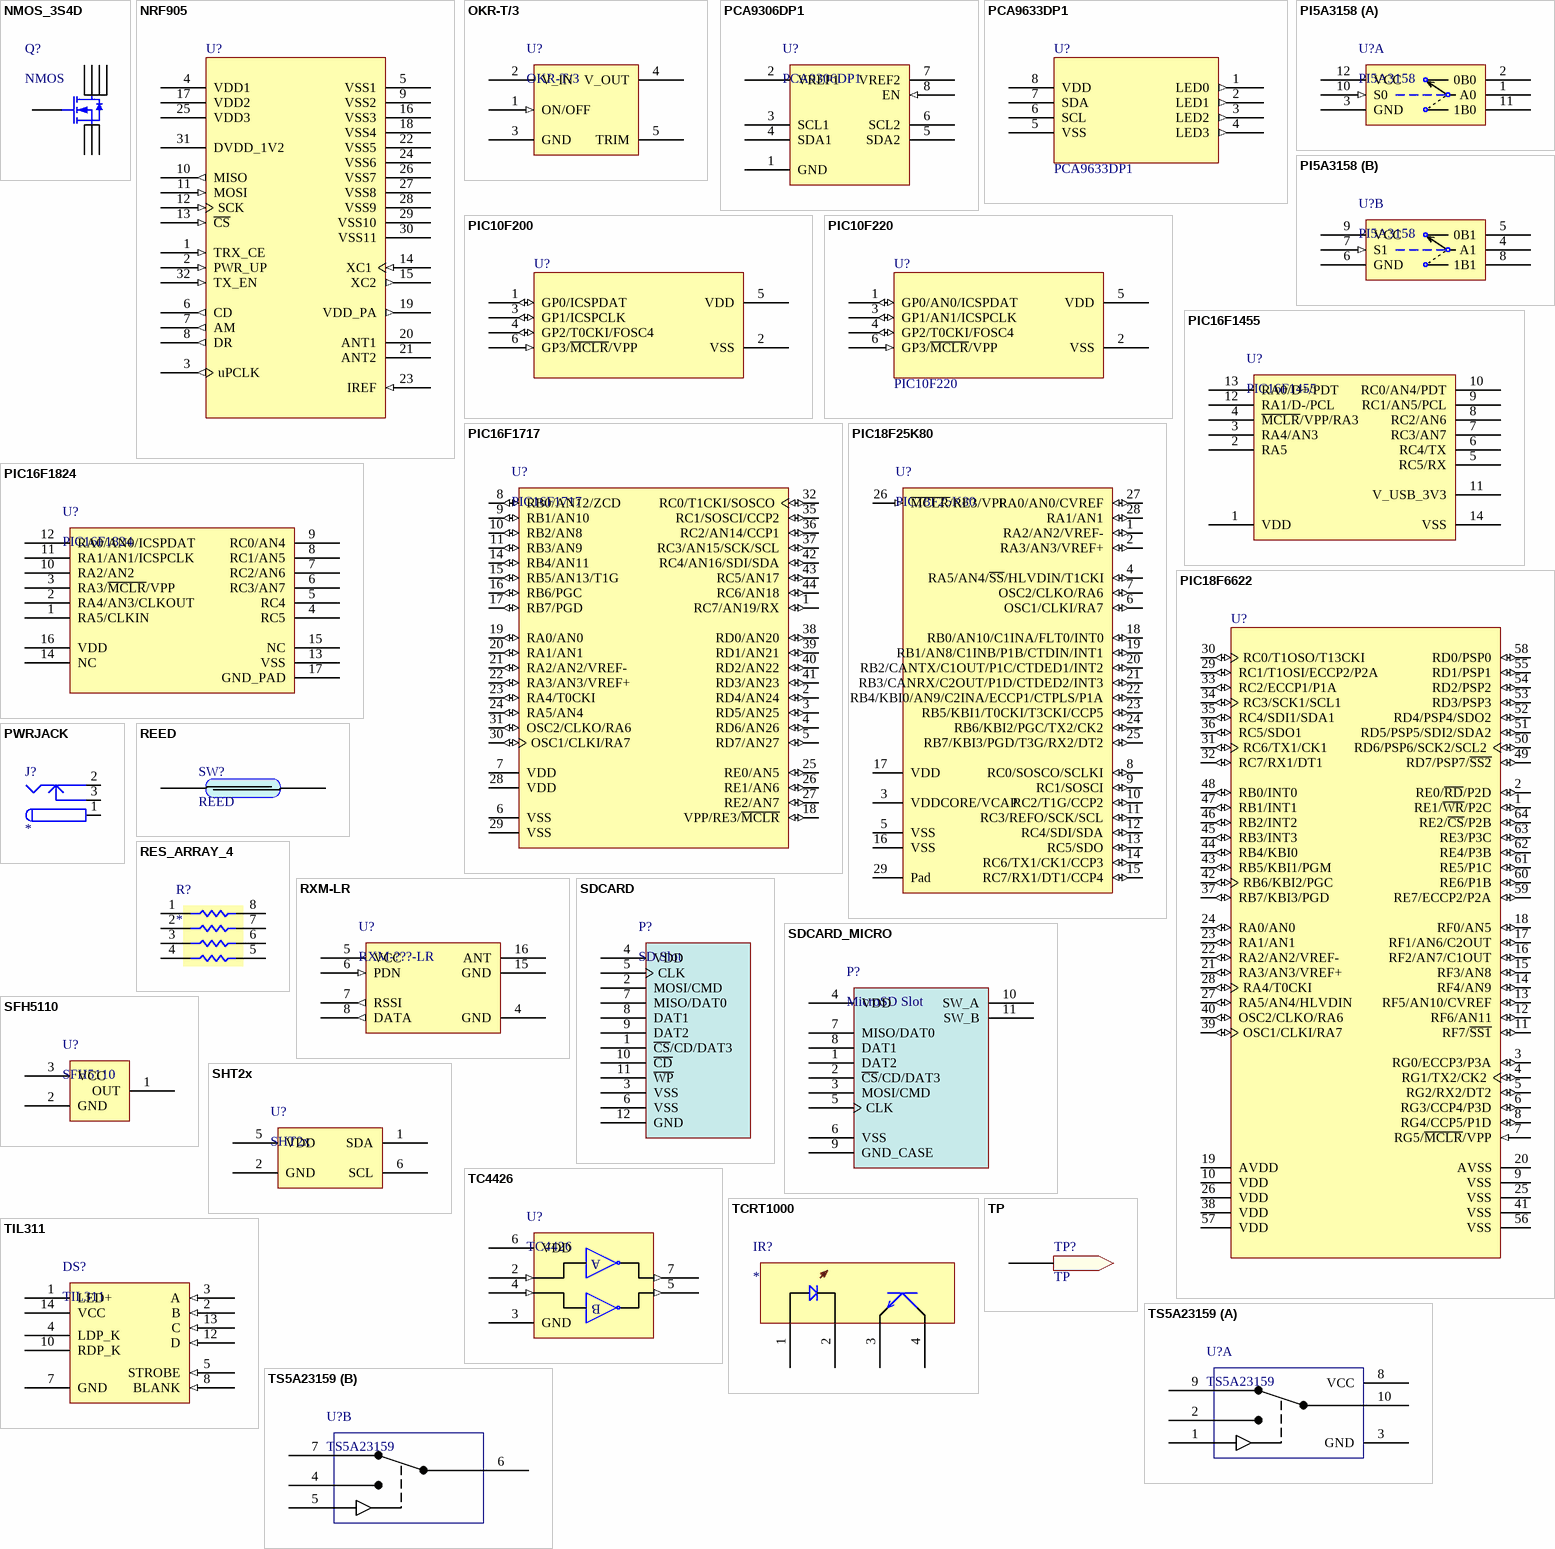
[diagram p3: symbols NMOS_3S4D to TS5A23159]

## NMOS_3S4D
designator Q?, comment NMOS
N-Channel MOSFET, 4 drain pins, 3 source pins
footprint SOIC127P600-8AN (SOIC, 8-Leads, Body 4.9x3.9mm, Pitch 1.27mm, IPC Medium Density)
pins: 1 S, 2 S, 3 S, 4 G, 5 D, 6 D, 7 D, 8 D

## NRF905
designator U?
Single chip radio transceiver
footprint QFN5x5-32-NOPAD (Quad Flat No Lead; 32 Terminals; Body 5 x 5 mm; Pitch 0.5 mm; no central pad)
pins: 1 TRX_CE (in), 2 PWR_UP (in), 3 uPCLK (out), 4 VDD1 (power), 5 VSS1 (power), 6 CD (out), 7 AM (out), 8 DR (out), 9 VSS2 (power), 10 MISO (out), 11 MOSI (in), 12 SCK (in), 13 ~{CS} (in), 14 XC1 (in), 15 XC2 (out), 16 VSS3 (power), 17 VDD2 (power), 18 VSS4 (power), 19 VDD_PA (out), 20 ANT1, 21 ANT2, 22 VSS5 (power), 23 IREF (in), 24 VSS6 (power), 25 VDD3 (power), 26 VSS7 (power), 27 VSS8 (power), 28 VSS9 (power), 29 VSS10 (power), 30 VSS11 (power), 31 DVDD_1V2 (power), 32 TX_EN (in)

## OKR-T/3
designator U?
Adjustable Output 3-Amp SIP-mount DC/DC Converters
footprint MURATA_OKR-T/3 (MuRata OKR-T/3 converter)
pins: 1 ON/OFF (in), 2 V_IN (power), 3 GND (power), 4 V_OUT (power), 5 TRIM

## PCA9306DP1
designator U?
Dual I2C voltage-level translator
footprint VSSOP8 (VSSOP package (SOT765-1), 8 pins)
pins: 1 GND (power), 2 VREF1, 3 SCL1 (oc), 4 SDA1 (oc), 5 SDA2 (oc), 6 SCL2 (oc), 7 VREF2, 8 EN (in)

## PCA9633DP1
designator U?
4-bit Fm+ I²C-bus LED driver
footprint TSOP65P490-8AN (TSOP, 8-Leads, Body 3x3mm, Pitch 0.65mm, IPC Medium Density)
pins: 1 LED0 (out), 2 LED1 (out), 3 LED2 (out), 4 LED3 (out), 5 VSS (power), 6 SCL (oc), 7 SDA (oc), 8 VDD (power)

## PI5A3158
designator U?
Low Voltage Dual SPDT An a log Switch
footprint TDFN12-ZA (SoTINY TDFN12 package)
part A pins: 1 A0, 2 0B0, 3 GND (power), 10 S0 (in), 11 1B0, 12 VCC (power)
part B pins: 4 A1, 5 0B1, 6 GND (power), 7 S1 (in), 8 1B1, 9 VCC (power)

## PIC10F200
designator U?
PIC10F200 8-Bit Microcontroller
footprint SOT26A-6N (SOT23, 6-Leads, Body 2.9x1.7mm, Pitch 0.95mm, Lead Span 2.8mm, IPC Medium Density)
pins: 1 GP0/ICSPDAT (io), 2 VSS (power), 3 GP1/ICSPCLK (io), 4 GP2/T0CKI/FOSC4 (io), 5 VDD (power), 6 GP3/~{MCLR}/VPP (in)

## PIC10F220
designator U?
PIC10F220 8-Bit Microcontroller
footprint SOT26A-6N (SOT23, 6-Leads, Body 2.9x1.7mm, Pitch 0.95mm, Lead Span 2.8mm, IPC Medium Density)
pins: 1 GP0/AN0/ICSPDAT (io), 2 VSS (power), 3 GP1/AN1/ICSPCLK (io), 4 GP2/T0CKI/FOSC4 (io), 5 VDD (power), 6 GP3/~{MCLR}/VPP (in)

## PIC16F1455
designator U?
8-bit Microcontroller
footprint SOIC127P600-14N (SOIC, 14-Leads, Body 8.7x3.9mm, Pitch 1.27mm, IPC Medium Density)
pins: 1 VDD (power), 2 RA5, 3 RA4/AN3, 4 ~{MCLR}/VPP/RA3, 5 RC5/RX, 6 RC4/TX, 7 RC3/AN7, 8 RC2/AN6, 9 RC1/AN5/PCL, 10 RC0/AN4/PDT, 11 V_USB_3V3, 12 RA1/D-/PCL, 13 RA0/D+/PDT, 14 VSS (power)

## PIC16F1717
designator U?
8-bit Microcontroller
footprint TQFP80P1200X1200-44AN (Thin QFP, 44-Leads, Body 10x10mm, Pitch 0.8mm, IPC Medium Density)
pins: 1 RC7/AN19/RX (io), 2 RD4/AN24 (io), 3 RD5/AN25 (io), 4 RD6/AN26 (io), 5 RD7/AN27 (io), 6 VSS (power), 7 VDD (power), 8 RB0/AN12/ZCD (io), 9 RB1/AN10 (io), 10 RB2/AN8 (io), 11 RB3/AN9 (io), 14 RB4/AN11 (io), 15 RB5/AN13/T1G (io), 16 RB6/PGC (io), 17 RB7/PGD (io), 18 VPP/RE3/~{MCLR} (io), 19 RA0/AN0 (io), 20 RA1/AN1 (io), 21 RA2/AN2/VREF- (io), 22 RA3/AN3/VREF+ (io), 23 RA4/T0CKI (io), 24 RA5/AN4 (io), 25 RE0/AN5 (io), 26 RE1/AN6 (io), 27 RE2/AN7 (io), 28 VDD (power), 29 VSS (power), 30 OSC1/CLKI/RA7 (io), 31 OSC2/CLKO/RA6 (io), 32 RC0/T1CKI/SOSCO (io), 35 RC1/SOSCI/CCP2 (io), 36 RC2/AN14/CCP1 (io), 37 RC3/AN15/SCK/SCL (io), 38 RD0/AN20 (io), 39 RD1/AN21 (io), 40 RD2/AN22 (io), 41 RD3/AN23 (io), 42 RC4/AN16/SDI/SDA (io), 43 RC5/AN17 (io), 44 RC6/AN18 (io)

## PIC16F1824
designator U?
8-bit Microcontroller; Supplier 1: Farnell; Supplier Part Number 1: 1814943
footprint QFN65P400X400-16VAN (16-Pin Plastic Quad Flat No-Lead 0.65 mm Pitch)
pins: 1 RA5/CLKIN, 2 RA4/AN3/CLKOUT, 3 RA3/~{MCLR}/VPP, 4 RC5, 5 RC4, 6 RC3/AN7, 7 RC2/AN6, 8 RC1/AN5, 9 RC0/AN4, 10 RA2/AN2, 11 RA1/AN1/ICSPCLK, 12 RA0/AN0/ICSPDAT, 13 VSS (power), 14 NC, 15 NC, 16 VDD (power), 17 GND_PAD

## PIC18F25K80
designator U?
Enhanced Flash Microcontroller with ECAN Technology, 10-Bit A/D and nanoWatt Technology, 32K Flash, 28-Pin QFN, Industrial Temperature Range, Tape and Reel; PackageVersion: revBB, Aug-2009; PackageReference: QFN-ML28; PackageDescription: 28-Lead Plastic Quad Flat, No Lead Package (ML) - 6x6 mm Body [QFN] with 0.55 mm Contact Length; Code_JEDEC: MO-220; Code_IPC: QFN65P600X600-28V
footprint QFN-P28-NOVIAS (QFN, 28-Leads, Body 6x6 mm, Pitch 0.65mm, IPC Low Density, No Vias)
pins: 1 RA2/AN2/VREF- (io), 2 RA3/AN3/VREF+ (io), 3 VDDCORE/VCAP (power), 4 RA5/AN4/~{SS}/HLVDIN/T1CKI (io), 5 VSS (power), 6 OSC1/CLKI/RA7 (io), 7 OSC2/CLKO/RA6 (io), 8 RC0/SOSCO/SCLKI (io), 9 RC1/SOSCI (io), 10 RC2/T1G/CCP2 (io), 11 RC3/REFO/SCK/SCL (io), 12 RC4/SDI/SDA (io), 13 RC5/SDO (io), 14 RC6/TX1/CK1/CCP3 (io), 15 RC7/RX1/DT1/CCP4 (io), 16 VSS (power), 17 VDD (power), 18 RB0/AN10/C1INA/FLT0/INT0 (io), 19 RB1/AN8/C1INB/P1B/CTDIN/INT1 (io), 20 RB2/CANTX/C1OUT/P1C/CTDED1/INT2 (io), 21 RB3/CANRX/C2OUT/P1D/CTDED2/INT3 (io), 22 RB4/KBI0/AN9/C2INA/ECCP1/CTPLS/P1A (io), 23 RB5/KBI1/T0CKI/T3CKI/CCP5 (io), 24 RB6/KBI2/PGC/TX2/CK2 (io), 25 RB7/KBI3/PGD/T3G/RX2/DT2 (io), 26 ~{MCLR}/RE3/VPP (in), 27 RA0/AN0/CVREF (io), 28 RA1/AN1 (io), 29 Pad (power)

## PIC18F6622
designator U?
High Performance, 1Mbit Enhanced FLASH Microcontroller with A/D, 64-Pin TQFP, Standard Volt Range; PackageDocument: DS00049W_2003; PackageReference: TQFP-64; Code_JEDEC: MS-026; Code_IPC: SQFP10X10-64
footprint TQFP-64 (QFP, Plastic; 64 Leads; Body 10 x 10 mm; Pitch 0.5 mm; Lead Form 1.0/0.1 mm)
3D model PIC18F6620-TQFP-64 (QFP, Plastic; 64 Leads; Body 10 x 10 mm; Pitch 0.5 mm; Lead Form 1.0/0.1 mm)
pins: 1 RE1/~{WR}/P2C (io), 2 RE0/~{RD}/P2D (io), 3 RG0/ECCP3/P3A (io), 4 RG1/TX2/CK2 (io), 5 RG2/RX2/DT2 (io), 6 RG3/CCP4/P3D (io), 7 RG5/~{MCLR}/VPP (in), 8 RG4/CCP5/P1D (io), 9 VSS (power), 10 VDD (power), 11 RF7/~{SS1} (io), 12 RF6/AN11 (io), 13 RF5/AN10/CVREF (io), 14 RF4/AN9 (io), 15 RF3/AN8 (io), 16 RF2/AN7/C1OUT (io), 17 RF1/AN6/C2OUT (io), 18 RF0/AN5 (io), 19 AVDD (power), 20 AVSS (power), 21 RA3/AN3/VREF+ (io), 22 RA2/AN2/VREF- (io), 23 RA1/AN1 (io), 24 RA0/AN0 (io), 25 VSS (power), 26 VDD (power), 27 RA5/AN4/HLVDIN (io), 28 RA4/T0CKI (io), 29 RC1/T1OSI/ECCP2/P2A (io), 30 RC0/T1OSO/T13CKI (io), 31 RC6/TX1/CK1 (io), 32 RC7/RX1/DT1 (io), 33 RC2/ECCP1/P1A (io), 34 RC3/SCK1/SCL1 (io), 35 RC4/SDI1/SDA1 (io), 36 RC5/SDO1 (io), 37 RB7/KBI3/PGD (io), 38 VDD (power), 39 OSC1/CLKI/RA7 (io), 40 OSC2/CLKO/RA6 (io), 41 VSS (power), 42 RB6/KBI2/PGC (io), 43 RB5/KBI1/PGM (io), 44 RB4/KBI0 (io), 45 RB3/INT3 (io), 46 RB2/INT2 (io), 47 RB1/INT1 (io), 48 RB0/INT0 (io), 49 RD7/PSP7/~{SS2} (io), 50 RD6/PSP6/SCK2/SCL2 (io), 51 RD5/PSP5/SDI2/SDA2 (io), 52 RD4/PSP4/SDO2 (io), 53 RD3/PSP3 (io), 54 RD2/PSP2 (io), 55 RD1/PSP1 (io), 56 VSS (power), 57 VDD (power), 58 RD0/PSP0 (io), 59 RE7/ECCP2/P2A (io), 60 RE6/P1B (io), 61 RE5/P1C (io), 62 RE4/P3B (io), 63 RE3/P3C (io), 64 RE2/~{CS}/P2B (io)

## PWRJACK
designator J?
Power Jack
footprint RASM712 (Switchcraft RASM 712 2.5 mm power jack)
pins: 1 (power), 2 (power), 3 (power)

## REED
designator SW?
Reed contact
footprint REED_MITI3V1 (Hamlin MITI-3V1 reed contact)
pins: 1, 2

## RES_ARRAY_4
designator R?
4 resistors array
pins: 1, 2, 3, 4, 5, 6, 7, 8

## RXM-LR
designator U?, comment RXM-???-LR
Linx RXM-xxx-LR receiver module
footprint LINX_LR_RX (Linx Technologies LR package (RX))
pins: 4 GND (power), 5 VCC (power), 6 PDN (in), 7 RSSI (out), 8 DATA (out), 15 GND (power), 16 ANT

## SDCARD
designator P?, comment SD Slot
SD/MMC Card Connector
footprint CONN_SD_3M (3M Secure Digital Card Connector)
pins: 1 ~{CS}/CD/DAT3, 2 MOSI/CMD, 3 VSS, 4 VDD, 5 CLK, 6 VSS, 7 MISO/DAT0, 8 DAT1, 9 DAT2, 10 ~{CD}, 11 ~{WP}, 12 GND

## SDCARD_MICRO
designator P?, comment MicroSD Slot
MicroSD memory card slot
footprint CONN_MICROSD_DM3D (Hirose DM3D-SF MicroSD push-pull connector)
pins: 1 DAT2, 2 ~{CS}/CD/DAT3, 3 MOSI/CMD, 4 VDD (power), 5 CLK, 6 VSS (power), 7 MISO/DAT0, 8 DAT1, 9 GND_CASE, 10 SW_A, 11 SW_B

## SFH5110
designator U?
IR-Receiver for Remote Control Systems
footprint SFH5110 (IR receiver)
pins: 1 OUT, 2 GND (power), 3 VCC (power)

## SHT2x
designator U?
SHT20/21/25 temperature and humidity sensor
footprint DFN6-SHT2x (Sensirion SHT2x DFN-6 package)
pins: 1 SDA (oc), 2 GND (power), 5 VDD (power), 6 SCL (oc)

## TC4426
designator U?
1.5A Dual High-Speed Power MOSFET Drivers
footprint SOIC127P600-8AN (SOIC, 8-Leads, Body 4.9x3.9mm, Pitch 1.27mm, IPC Medium Density)
pins: 2 IN_A (in), 3 GND (power), 4 IN_B (in), 5 ~{OUT_B} (out), 6 VDD (power), 7 ~{OUT_A} (out)
text: A; B

## TCRT1000
designator IR?
Reflective Optical Sensor with Transistor Output
footprint TCRT1000 (Reflective optical sensor with transistor output)
pins: 1 A, 2 K, 3 E, 4 C

## TIL311
designator DS?
Hexadecimal display with logic
pins: 1 LED+ (power), 2 B (in), 3 A (in), 4 LDP_K, 5 STROBE (in), 7 GND (power), 8 BLANK (in), 10 RDP_K, 12 D (in), 13 C (in), 14 VCC (power)

## TP
designator TP?
Test Point
footprint TP_ROND_1MM (Test point rond, diam. 1 mm)
footprint TPLOGI (Douille logidule)
pins: 1

## TS5A23159
designator U?
Dual SPDT analog multiplexer
footprint TSSOP50P490-10AN (TSSOP, 10-Leads, Body 3x3mm, Pitch 0.5mm, IPC Medium Density)
part A pins: 1 IN1, 2 NO1, 3 GND (power), 8 VCC (power), 9 NC1, 10 COM1
part B pins: 4 NO2, 5 IN2, 6 COM2, 7 NC2

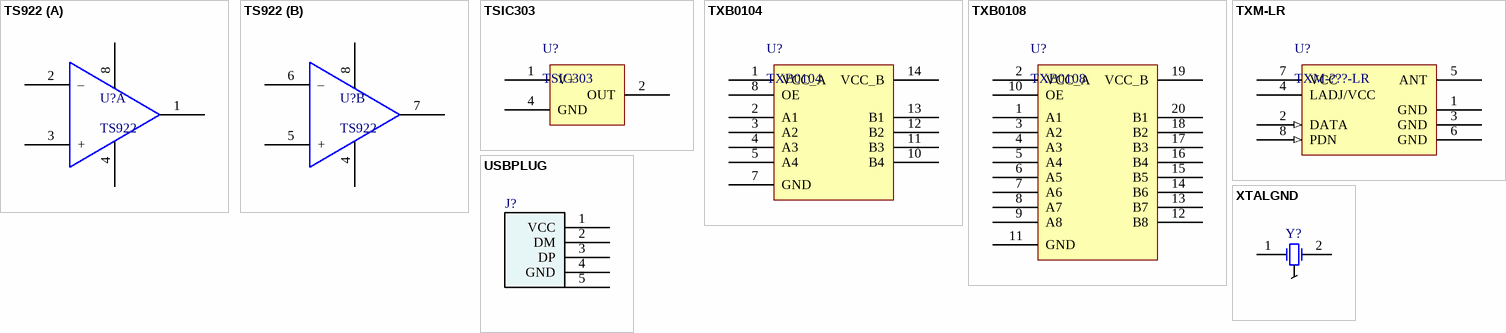
[diagram p4: symbols TS922 to XTALGND]

## TS922
designator U?
Rail-to-rail high output current dual operational amplifier
footprint SOIC127P600-8AN (SOIC, 8-Leads, Body 4.9x3.9mm, Pitch 1.27mm, IPC Medium Density)
part A pins: 1 OUT, 2 –, 3 +, 4 V– (power), 8 V+ (power)
part B pins: 4 V– (power), 5 +, 6 –, 7 OUT, 8 V+ (power)

## TSIC303
designator U?
Ratiometric Temperature Sensor
footprint SOIC127P600-8AN (SOIC, 8-Leads, Body 4.9x3.9mm, Pitch 1.27mm, IPC Medium Density)
pins: 1 V+ (power), 2 OUT, 4 GND (power)

## TXB0104
designator U?
4-Bit Bidirectional Voltage-level Translator
footprint PVQFN14-RGY (Texas Instruments RGY package, 14 pins)
pins: 1 VCC_A (power), 2 A1, 3 A2, 4 A3, 5 A4, 7 GND (power), 8 OE, 10 B4, 11 B3, 12 B2, 13 B1, 14 VCC_B (power)

## TXB0108
designator U?
8-Bit Bidirectional Voltage-Level Translator
footprint PVQFN20-RGY (Texas Instruments RGY package, 20 pins)
pins: 1 A1, 2 VCC_A (power), 3 A2, 4 A3, 5 A4, 6 A5, 7 A6, 8 A7, 9 A8, 10 OE, 11 GND (power), 12 B8, 13 B7, 14 B6, 15 B5, 16 B4, 17 B3, 18 B2, 19 VCC_B (power), 20 B1

## TXM-LR
designator U?, comment TXM-???-LR
Linx TXM-xxx-LR transmitter module
footprint LINX_LR_TX (Linx Technologies LR package (TX))
pins: 1 GND (power), 2 DATA (in), 3 GND (power), 4 LADJ/VCC, 5 ANT, 6 GND (power), 7 VCC (power), 8 PDN (in)

## USBPLUG
designator J?
USB Plug
footprint USB_LUMBERG_241007 (Lumberg SMT USB Type A Plug (male))
footprint CONN_USB_DDK_B (Type B USB connector (DDK))
pins: 1 VCC, 2 DM, 3 DP, 4 GND, 5 SHIELD

## XTALGND
designator Y?
Crystal Oscillator with ground
simulation model XTAL (Spice Subcircuit)
pins: 1 OSC1, 2 OSC2, 3 hidden to GND